# Altium footprint library UQFN-10.PcbLib: 1 footprints
Each footprint in its own frame and in the unit in brackets; x right, y up, seen from the top. Pads: shape width x height; smd on the part's side, far side on the other; paste and mask are expansions set on the pad; w line width, h text height; cw(c..) or ccw(c..) is an arc to the next point about the centre after c.
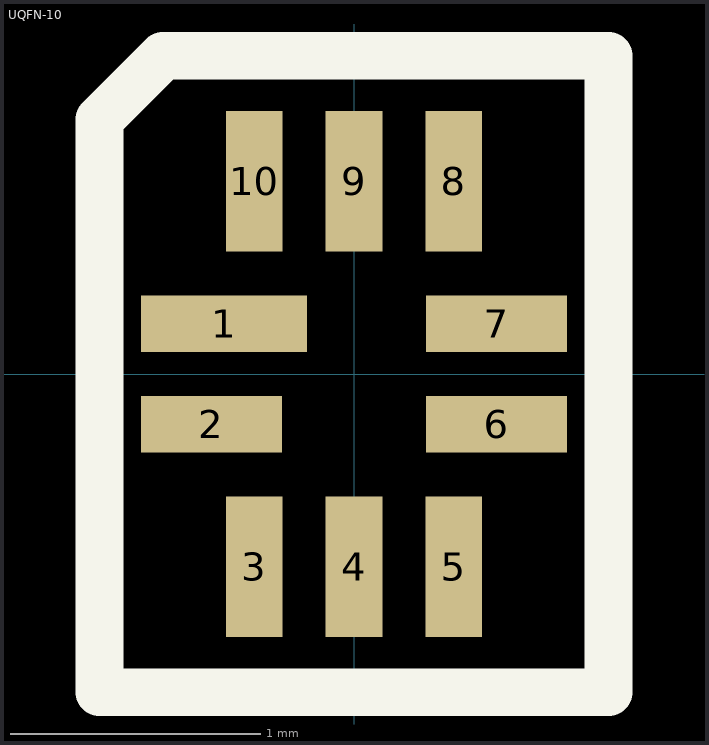
[diagram p0: the footprint, top view; thin cyan lines are the x and y axes]

## UQFN-10 [mm]
pads (10):
  rect 0.663x0.225 smd mask+0.051: 1(-0.518,0.201)
  rect 0.561x0.226 smd mask+0.051: 2(-0.569,-0.201) 6(0.569,-0.201) 7(0.569,0.201)
  rect 0.226x0.561 smd mask+0.051: 3(-0.399,-0.77) 4(0,-0.77) 5(0.399,-0.77) 8(0.399,0.77) 9(0,0.77) 10(-0.399,0.77)
Top Overlay:
  lines w0.191: -1.016,-1.27 -1.016,1.016 -0.762,1.27 1.016,1.27 1.016,-1.27 -1.016,-1.27
3D body "UQFN-10.STEP": height 0.55, standoff -0.01, extent -0.725,-0.925 0.725,0.925